# Altium footprint library Common-Parts-Library.PcbLib: 530 footprints (part 23 of 34)
Each footprint in its own frame and in the unit in brackets; x right, y up, seen from the top. Pads: shape width x height; smd on the part's side, far side on the other; paste and mask are expansions set on the pad; w line width, h text height; cw(c..) or ccw(c..) is an arc to the next point about the centre after c.
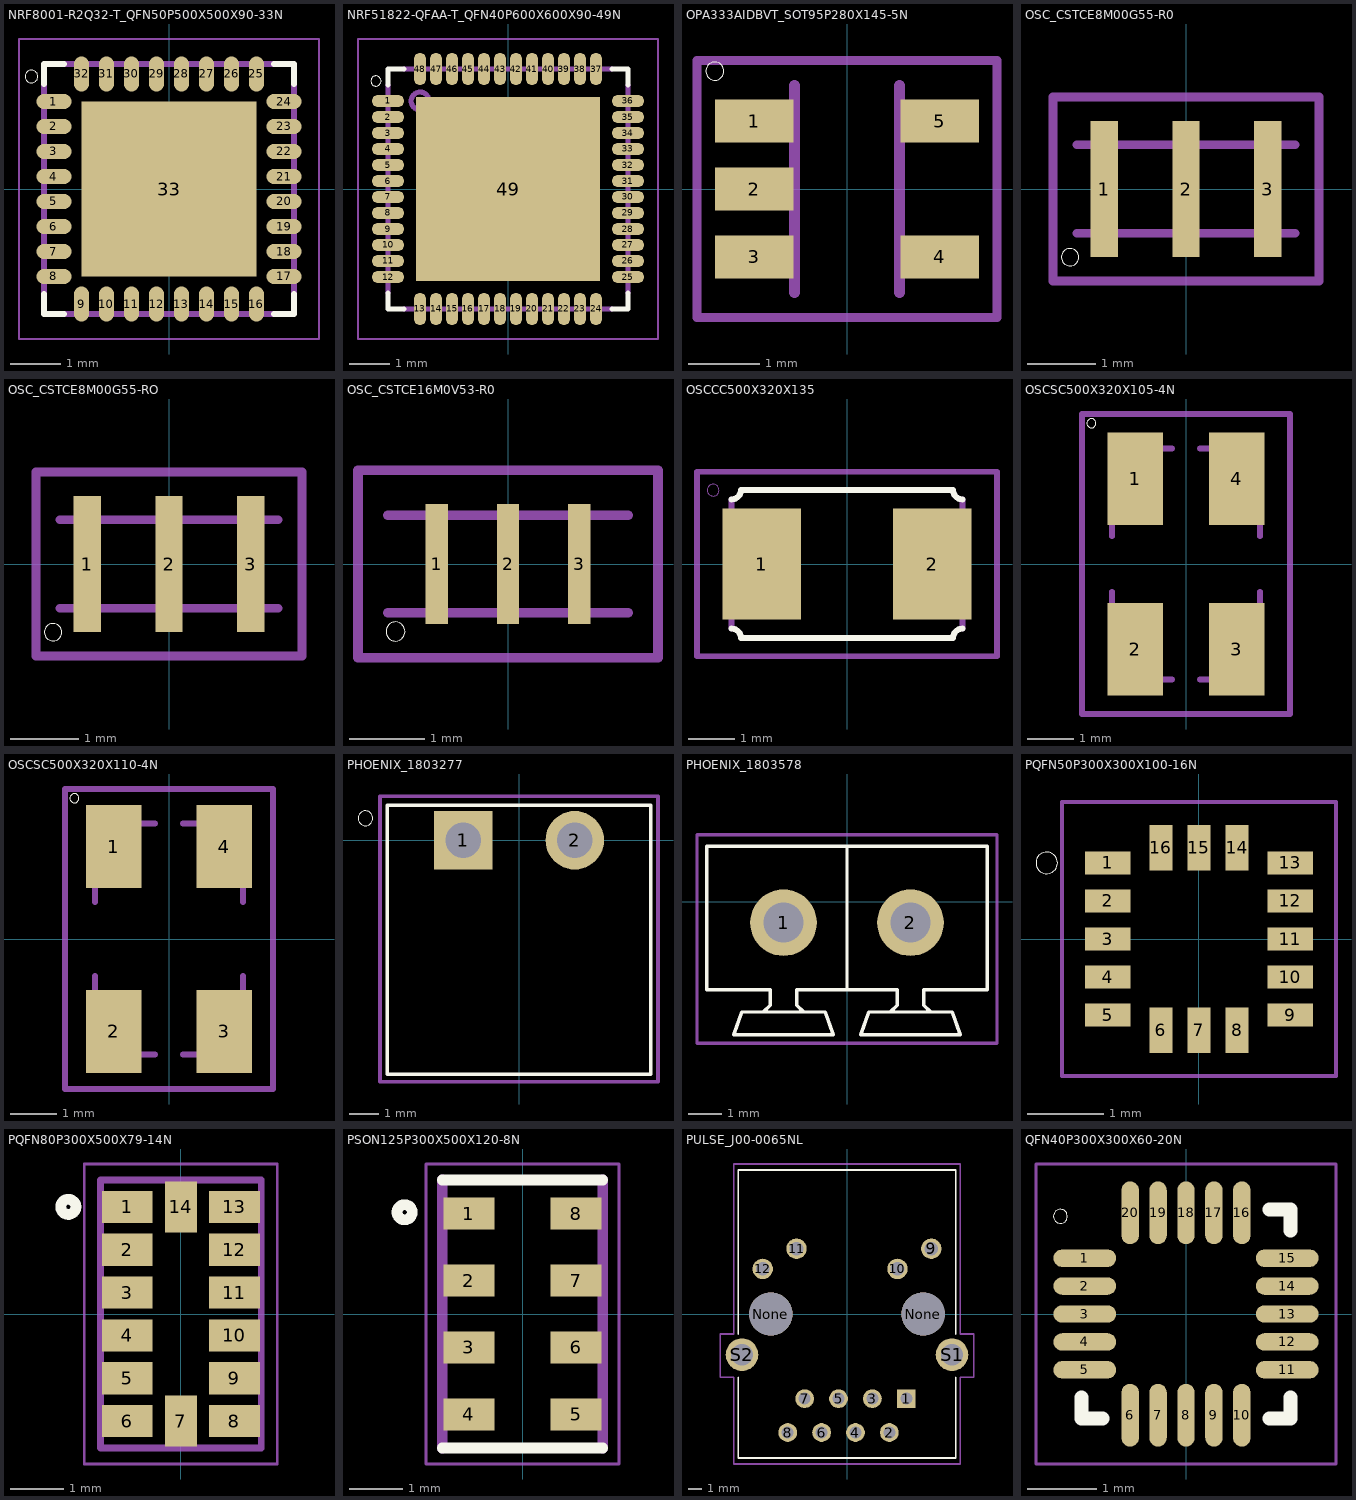
[diagram p22: the footprints below, top view; thin cyan lines are the x and y axes]

## NRF8001-R2Q32-T_QFN50P500X500X90-33N [mm]
pads (33):
  oval 0.7x0.3 smd: 1(-2.3,1.75) 2(-2.3,1.25) 3(-2.3,0.75) 4(-2.3,0.25) 5(-2.3,-0.25) 6(-2.3,-0.75) 7(-2.3,-1.25) 8(-2.3,-1.75) 17(2.3,-1.75) 18(2.3,-1.25) 19(2.3,-0.75) 20(2.3,-0.25) 21(2.3,0.25) 22(2.3,0.75) 23(2.3,1.25) 24(2.3,1.75)
  oval 0.3x0.7 smd: 9(-1.75,-2.3) 10(-1.25,-2.3) 11(-0.75,-2.3) 12(-0.25,-2.3) 13(0.25,-2.3) 14(0.75,-2.3) 15(1.25,-2.3) 16(1.75,-2.3) 25(1.75,2.3) 26(1.25,2.3) 27(0.75,2.3) 28(0.25,2.3) 29(-0.25,2.3) 30(-0.75,2.3) 31(-1.25,2.3) 32(-1.75,2.3)
  rect 3.5x3.5 smd: 33(0,0)
Top Overlay:
  circle w0: c-2.75,2.25 r0.127
  lines w0.127: -2.5,-2.1 -2.5,-2.5 -2.1,-2.5 ; -2.5,2.1 -2.5,2.5 -2.1,2.5 ; 2.1,-2.5 2.5,-2.5 2.5,-2.1 ; 2.1,2.5 2.5,2.5 2.5,2.1
Top Paste:
  region: -1.103,1.1 1.1,1.1 1.1,-1.103 -1.103,-1.103
Top Solder:
  lines w0.254: -2.499,-1.749 -2.099,-1.749 ; -2.499,-1.249 -2.099,-1.249 ; -2.499,-0.749 -2.099,-0.749 ; -2.499,-0.249 -2.099,-0.249 ; -2.499,0.251 -2.099,0.251 ; -2.499,0.751 -2.099,0.751 ; -2.499,1.251 -2.099,1.251 ; -2.499,1.751 -2.099,1.751 ; -1.749,-2.499 -1.749,-2.099 ; -1.749,2.101 -1.749,2.501 ; -1.249,-2.499 -1.249,-2.099 ; -1.249,2.101 -1.249,2.501 ; -0.749,-2.499 -0.749,-2.099 ; -0.749,2.101 -0.749,2.501 ; -0.249,-2.499 -0.249,-2.099 ; -0.249,2.101 -0.249,2.501 ; 0.251,-2.499 0.251,-2.099 ; 0.251,2.101 0.251,2.501 ; 0.751,-2.499 0.751,-2.099 ; 0.751,2.101 0.751,2.501 ; 1.251,-2.499 1.251,-2.099 ; 1.251,2.101 1.251,2.501 ; 1.751,-2.499 1.751,-2.099 ; 1.751,2.101 1.751,2.501 ; 2.101,-1.749 2.501,-1.749 ; 2.101,-1.249 2.501,-1.249 ; 2.101,-0.749 2.501,-0.749 ; 2.101,-0.249 2.501,-0.249 ; 2.101,0.251 2.501,0.251 ; 2.101,0.751 2.501,0.751 ; 2.101,1.251 2.501,1.251 ; 2.101,1.751 2.501,1.751
Mechanical 1:
  circle w0.05: c-1.499,1.501 r0.1
  lines w0.05: -3,-3 -3,3 3,3 3,-3 -3,-3
  lines w0.127: -2.499,-2.149 -2.499,2.151 ; -2.149,-2.499 2.151,-2.499 ; -2.149,2.501 2.151,2.501 ; 2.501,-2.149 2.501,2.151
  lines w0.23: -2.424,-1.749 -2.199,-1.749 ; -2.424,-1.249 -2.199,-1.249 ; -2.424,-0.749 -2.199,-0.749 ; -2.424,-0.249 -2.199,-0.249 ; -2.424,0.251 -2.199,0.251 ; -2.424,0.751 -2.199,0.751 ; -2.424,1.251 -2.199,1.251 ; -2.424,1.751 -2.199,1.751 ; -1.749,-2.424 -1.749,-2.199 ; -1.749,2.201 -1.749,2.426 ; -1.249,-2.424 -1.249,-2.199 ; -1.249,2.201 -1.249,2.426 ; -0.749,-2.424 -0.749,-2.199 ; -0.749,2.201 -0.749,2.426 ; -0.249,-2.424 -0.249,-2.199 ; -0.249,2.201 -0.249,2.426 ; 0.251,-2.424 0.251,-2.199 ; 0.251,2.201 0.251,2.426 ; 0.751,-2.424 0.751,-2.199 ; 0.751,2.201 0.751,2.426 ; 1.251,-2.424 1.251,-2.199 ; 1.251,2.201 1.251,2.426 ; 1.751,-2.424 1.751,-2.199 ; 1.751,2.201 1.751,2.426 ; 2.201,-1.749 2.426,-1.749 ; 2.201,-1.249 2.426,-1.249 ; 2.201,-0.749 2.426,-0.749 ; 2.201,-0.249 2.426,-0.249 ; 2.201,0.251 2.426,0.251 ; 2.201,0.751 2.426,0.751 ; 2.201,1.251 2.426,1.251 ; 2.201,1.751 2.426,1.751

## NRF51822-QFAA-T_QFN40P600X600X90-49N [mm]
pads (49):
  oval 0.8x0.3 smd: 1(-3,2.2) 2(-3,1.8) 3(-3,1.4) 4(-3,1) 5(-3,0.6) 6(-3,0.2) 7(-3,-0.2) 8(-3,-0.6) 9(-3,-1) 10(-3,-1.4) 11(-3,-1.8) 12(-3,-2.2) 25(3,-2.2) 26(3,-1.8) 27(3,-1.4) 28(3,-1) 29(3,-0.6) 30(3,-0.2) 31(3,0.2) 32(3,0.6) 33(3,1) 34(3,1.4) 35(3,1.8) 36(3,2.2)
  oval 0.3x0.8 smd: 13(-2.2,-3) 14(-1.8,-3) 15(-1.4,-3) 16(-1,-3) 17(-0.6,-3) 18(-0.2,-3) 19(0.2,-3) 20(0.6,-3) 21(1,-3) 22(1.4,-3) 23(1.8,-3) 24(2.2,-3) 37(2.2,3) 38(1.8,3) 39(1.4,3) 40(1,3) 41(0.6,3) 42(0.2,3) 43(-0.2,3) 44(-0.6,3) 45(-1,3) 46(-1.4,3) 47(-1.8,3) 48(-2.2,3)
  rect 4.6x4.6 smd: 49(0,0)
Top Overlay:
  circle w0: c-3.3,2.7 r0.127
  lines w0.127: -3,-2.6 -3,-3 -2.6,-3 ; -3,2.6 -3,3 -2.6,3 ; 2.6,-3 3,-3 3,-2.6 ; 2.6,3 3,3 3,2.6
Top Paste:
  region: -1.452,1.45 1.45,1.45 1.45,-1.452 -1.452,-1.452
Top Solder:
  drawing of 48 lines, arcs and shapes, not listed
Mechanical 1:
  drawing of 57 lines, arcs and shapes, not listed

## OPA333AIDBVT_SOT95P280X145-5N [mm]
pads (5):
  rect 1.1x0.6 smd: 1(-1.3,0.95) 2(-1.3,0) 3(-1.3,-0.95) 4(1.3,-0.95) 5(1.3,0.95)
Top Overlay:
  circle w0: c-1.85,1.65 r0.127
Mechanical 1:
  region: 1.425,1.2 1.425,0.702 0.777,0.702 0.777,1.2
  region: 1.426,-0.701 1.426,-1.2 0.775,-1.2 0.775,-0.701
  region: -0.775,-0.7 -0.775,-1.201 -1.426,-1.201 -1.426,-0.7
  region: -0.776,0.251 -0.776,-0.252 -1.427,-0.252 -1.427,0.251
  region: -0.776,1.201 -0.776,0.7 -1.425,0.7 -1.425,1.201
  lines w0.127: -2.1,-1.8 2.1,-1.8 2.1,1.8 -2.1,1.8 -2.1,-1.8
  lines w0.152: -0.735,-1.45 -0.735,1.45 ; 0.735,-1.45 0.735,1.45

## OSC_CSTCE8M00G55-R0 [mm]
pads (3):
  rect 0.4x2 smd: 1(-1.2,0) 2(0,0) 3(1.2,0)
Top Overlay:
  circle w0: c-1.7,-1 r0.127
Mechanical 1:
  lines w0.127: -1.6,-0.65 1.6,-0.65 ; -1.6,0.65 1.6,0.65 ; -1.95,-1.35 -1.95,1.35 1.95,1.35 1.95,-1.35 -1.95,-1.35

## OSC_CSTCE8M00G55-RO [mm]
pads (3):
  rect 0.4x2 smd: 1(-1.2,0) 2(0,0) 3(1.2,0)
Top Overlay:
  circle w0: c-1.7,-1 r0.127
Mechanical 1:
  lines w0.127: -1.6,-0.65 1.6,-0.65 ; -1.6,0.65 1.6,0.65 ; -1.95,-1.35 -1.95,1.35 1.95,1.35 1.95,-1.35 -1.95,-1.35

## OSC_CSTCE16M0V53-R0 [mm]
pads (3):
  rect 0.3x1.6 smd: 1(-0.95,0) 2(0,0) 3(0.95,0)
Top Overlay:
  circle w0: c-1.5,-0.9 r0.127
Mechanical 1:
  lines w0.127: -1.6,-0.65 1.6,-0.65 ; -1.6,0.65 1.6,0.65 ; -2,-1.25 -2,1.25 2,1.25 2,-1.25 -2,-1.25

## OSCCC500X320X135 [mm]
pads (2):
  rect 1.7x2.4 smd: 1(-1.85,0) 2(1.85,0)
Top Overlay:
  lines w0.127: -2.5,-1.4 cw(c-2.5,-1.6) -2.3,-1.6 2.3,-1.6 cw(c2.5,-1.6) 2.5,-1.4 ; -2.5,1.4 ccw(c-2.5,1.6) -2.3,1.6 2.3,1.6 ccw(c2.5,1.6) 2.5,1.4
Mechanical 1:
  circle w0: c-2.9,1.6 r0.127
  lines w0.127: -2.5,-1.4 -2.5,1.4 ; 2.5,-1.4 2.5,1.4 ; -3.25,-2 -3.25,2 3.25,2 3.25,-2 -3.25,-2

## OSCSC500X320X105-4N [mm]
pads (4):
  rect 1.2x2 smd: 1(-1.1,1.85) 2(-1.1,-1.85) 3(1.1,-1.85) 4(1.1,1.85)
Top Overlay:
  circle w0: c-2.05,3.05 r0.1
Mechanical 1:
  lines w0.127: -1.6,-0.6 -1.6,-2.2 cw(c-1.6,-2.5) -1.3,-2.5 -0.3,-2.5 ; -1.6,0.6 -1.6,2.2 ccw(c-1.6,2.5) -1.3,2.5 -0.3,2.5 ; 0.3,-2.5 1.3,-2.5 cw(c1.6,-2.5) 1.6,-2.2 1.6,-0.6 ; 0.3,2.5 1.3,2.5 ccw(c1.6,2.5) 1.6,2.2 1.6,0.6 ; -2.25,-3.25 2.25,-3.25 2.25,3.25 -2.25,3.25 -2.25,-3.25

## OSCSC500X320X110-4N [mm]
pads (4):
  rect 1.2x1.8 smd: 1(-1.2,2) 2(-1.2,-2) 3(1.2,-2) 4(1.2,2)
Top Overlay:
  circle w0: c-2.05,3.05 r0.1
Mechanical 1:
  lines w0.127: -1.6,-0.8 -1.6,-2.2 cw(c-1.6,-2.5) -1.3,-2.5 -0.3,-2.5 ; -1.6,0.8 -1.6,2.2 ccw(c-1.6,2.5) -1.3,2.5 -0.3,2.5 ; 0.3,-2.5 1.3,-2.5 cw(c1.6,-2.5) 1.6,-2.2 1.6,-0.8 ; 0.3,2.5 1.3,2.5 ccw(c1.6,2.5) 1.6,2.2 1.6,0.8 ; -2.25,-3.25 2.25,-3.25 2.25,3.25 -2.25,3.25 -2.25,-3.25

## PHOENIX_1803277 [mm]
pads (2):
  rect 2x2 hole 1.2: 1(-1.905,0)
  round 2 hole 1.2: 2(1.905,0)
Top Overlay:
  circle w0: c-5.25,0.75 r0.254
  lines w0.127: -4.505,-8 -4.505,1.2 4.505,1.2 4.505,-8 -4.505,-8
Mechanical 1:
  lines w0.127: -4.75,-8.25 -4.75,1.5 4.75,1.5 4.75,-8.25 -4.75,-8.25

## PHOENIX_1803578 [mm]
pads (2):
  round 2 hole 1.2: 1(-1.905,-0.635) 2(1.905,-0.635)
Top Overlay:
  lines w0.102: 0,1.655 0,-2.645 ; 4.209,1.614 4.21,1.655 ; -2.505,-3.315 -2.305,-3.115 -2.305,-2.645 -4.21,-2.645 -4.21,1.655 4.21,1.655 ; -2.505,-3.315 -3.16,-3.315 -3.395,-3.995 -0.415,-3.995 -0.65,-3.315 -1.305,-3.315 ; -2.505,-3.315 -1.305,-3.315 ; -1.305,-3.315 -1.505,-3.115 -1.505,-2.645 0,-2.645 ; 0,-2.645 1.505,-2.645 1.505,-3.115 1.305,-3.315 ; 1.305,-3.315 0.65,-3.315 0.415,-3.995 3.395,-3.995 3.16,-3.315 2.505,-3.315 ; 1.305,-3.315 2.505,-3.315 ; 2.505,-3.315 2.305,-3.115 2.305,-2.645 4.21,-2.645 4.21,1.655
Mechanical 1:
  lines w0.102: -2.305,-1.045 -2.305,-0.245 ; -2.305,-1.045 -1.505,-1.045 ; -2.305,-1.045 -2.037,-0.777 ; -2.305,-0.245 -1.505,-0.245 ; -2.305,-0.245 -2.037,-0.513 ; -2.037,-0.777 -2.037,-0.513 ; -2.037,-0.777 -1.773,-0.777 ; -2.037,-0.513 -1.773,-0.513 ; -1.773,-0.777 -1.773,-0.513 ; -1.773,-0.777 -1.505,-1.045 ; -1.773,-0.513 -1.505,-0.245 ; -1.505,-1.045 -1.505,-0.245 ; 1.505,-1.045 1.505,-0.245 ; 1.505,-1.045 2.305,-1.045 ; 1.505,-1.045 1.773,-0.777 ; 1.505,-0.245 2.305,-0.245 ; 1.505,-0.245 1.773,-0.513 ; 1.773,-0.777 2.037,-0.777 ; 1.773,-0.777 1.773,-0.513 ; 1.773,-0.513 2.037,-0.513 ; 2.037,-0.777 2.037,-0.513 ; 2.037,-0.777 2.305,-1.045 ; 2.037,-0.513 2.305,-0.245 ; 2.305,-1.045 2.305,-0.245 ; -4.5,-4.25 -4.5,2 4.5,2 4.5,-4.25 -4.5,-4.25

## PQFN50P300X300X100-16N [mm]
pads (16):
  rect 0.6x0.3 smd: 1(-1.2,1) 2(-1.2,0.5) 3(-1.2,0) 4(-1.2,-0.5) 5(-1.2,-1) 9(1.2,-1) 10(1.2,-0.5) 11(1.2,0) 12(1.2,0.5) 13(1.2,1)
  rect 0.3x0.6 smd: 6(-0.5,-1.2) 7(0,-1.2) 8(0.5,-1.2) 14(0.5,1.2) 15(0,1.2) 16(-0.5,1.2)
Top Overlay:
  circle w0: c-2,1 r0.141
Mechanical 1:
  lines w0.05: -1.8,-1.8 -1.8,1.8 1.8,1.8 1.8,-1.8 -1.8,-1.8

## PQFN80P300X500X79-14N [mm]
pads (14):
  rect 0.95x0.6 smd: 1(-1,2) 2(-1,1.2) 3(-1,0.4) 4(-1,-0.4) 5(-1,-1.2) 6(-1,-2) 8(1,-2) 9(1,-1.2) 10(1,-0.4) 11(1,0.4) 12(1,1.2) 13(1,2)
  rect 0.6x0.95 smd: 7(0,-2) 14(0,2)
Top Overlay:
  circle w0.2: c-2.1,2 r0.141
Mechanical 1:
  lines w0.05: -1.8,-2.8 -1.8,2.8 1.8,2.8 1.8,-2.8 -1.8,-2.8
  lines w0.127: -1.5,-2.5 -1.5,2.5 1.5,2.5 1.5,-2.5 -1.5,-2.5

## PSON125P300X500X120-8N [mm]
pads (8):
  rect 0.95x0.6 smd: 1(-1,1.875) 2(-1,0.625) 3(-1,-0.625) 4(-1,-1.875) 5(1,-1.875) 6(1,-0.625) 7(1,0.625) 8(1,1.875)
Top Overlay:
  circle w0.2: c-2.2,1.9 r0.141
  lines w0.2: -1.5,-2.5 1.5,-2.5 ; -1.5,2.5 1.5,2.5
Mechanical 1:
  lines w0.05: -1.8,-2.8 -1.8,2.8 1.8,2.8 1.8,-2.8 -1.8,-2.8
  lines w0.2: -1.5,-2.5 -1.5,2.5 ; 1.5,-2.5 1.5,2.5

## PULSE_J00-0065NL [mm]
pads (16):
  rect 1.408x1.408 hole 0.9: 1(4.445,-6.35)
  round 1.408 hole 0.9: 2(3.175,-8.889) 3(1.905,-6.35) 4(0.635,-8.889) 5(-0.635,-6.35) 6(-1.905,-8.889) 7(-3.175,-6.35) 8(-4.445,-8.889)
  round 1.53 hole 1.02: 9(6.325,4.9) 10(3.785,3.38) 11(-3.785,4.9) 12(-6.325,3.38)
  round 3.25 hole 3.25 unplated: None(-5.715,0) None(5.715,0)
  round 2.445 hole 1.63: S1(7.875,-3.05) S2(-7.875,-3.05)
Top Overlay:
  lines w0.127: -8.15,-4.75 -8.15,-10.8 8.15,-10.8 8.15,-4.75 ; -8.15,-1.5 -8.15,10.8 8.15,10.8 8.15,-1.5
Mechanical 1:
  lines w0.127: -9.5,-4.75 -9.5,-1.5 -8.5,-1.5 -8.5,11.25 8.5,11.25 8.5,-1.5 9.5,-1.5 9.5,-4.75 8.5,-4.75 8.5,-11.25 -8.5,-11.25 -8.5,-4.75 -9.5,-4.75

## QFN40P300X300X60-20N [mm]
pads (20):
  oval 0.9x0.25 smd: 1(-1.45,0.8) 2(-1.45,0.4) 3(-1.45,0) 4(-1.45,-0.4) 5(-1.45,-0.8) 11(1.45,-0.8) 12(1.45,-0.4) 13(1.45,0) 14(1.45,0.4) 15(1.45,0.8)
  oval 0.25x0.9 smd: 6(-0.8,-1.45) 7(-0.4,-1.45) 8(0,-1.45) 9(0.4,-1.45) 10(0.8,-1.45) 16(0.8,1.45) 17(0.4,1.45) 18(0,1.45) 19(-0.4,1.45) 20(-0.8,1.45)
Top Overlay:
  circle w0: c-1.8,1.4 r0.1
  lines w0.2: -1.5,-1.2 -1.5,-1.5 -1.2,-1.5 ; 1.2,-1.5 1.5,-1.5 1.5,-1.2 ; 1.2,1.5 1.5,1.5 1.5,1.2
Mechanical 1:
  lines w0.05: -2.15,-2.15 -2.15,2.15 2.15,2.15 2.15,-2.15 -2.15,-2.15